# Altium schematic symbol library WA-SMSI_M2.5 Thread Internal.SchLib: 26 symbols
Pins are listed as number, name and electrical type; pins without a type are passive.

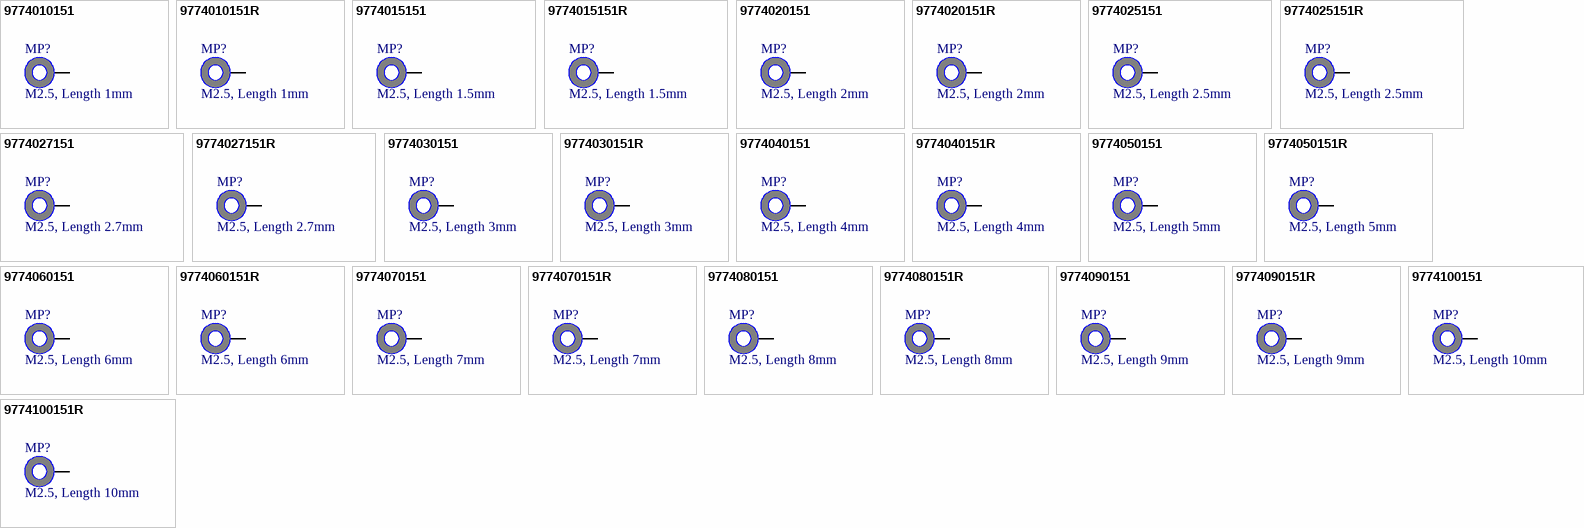
[diagram p0: symbols 9774010151 to 9774100151R]

## 9774010151
designator MP?, comment M2.5, Length 1mm
WA-SMSI SMT Steel Spacer, M2.5 Thread Internal, Length 1mm; PartNumber: 9774010151; InnerDiameter: 3.5mm; OuterDiameter: 5.1mm; PublishedDate: Dec. 2016; Publisher: Wurth Elektronik; ComponentLink1Description: Manufacturer; ComponentLink1URL: http://www.we-online.de; ComponentLink2Description: Datasheet; ComponentLink2URL: http://katalog.we-online.de/em/datasheet/9774010151.pdf; Length: 1mm; Thread: M2.5; Packaging: Bulk
footprint 9774010151
pins: 1

## 9774010151R
designator MP?, comment M2.5, Length 1mm
WA-SMSI SMT Steel Spacer, M2.5 Thread Internal, Length 1mm; PartNumber: 9774010151R; InnerDiameter: 3.5mm; OuterDiameter: 5.1mm; PublishedDate: Dec. 2016; Publisher: Wurth Elektronik; ComponentLink1Description: Manufacturer; ComponentLink1URL: http://www.we-online.de; ComponentLink2Description: Datasheet; ComponentLink2URL: http://katalog.we-online.de/em/datasheet/9774010151R.pdf; Length: 1mm; Thread: M2.5; Packaging: Tape and Reel
footprint 9774010151
pins: 1

## 9774015151
designator MP?, comment M2.5, Length 1.5mm
WA-SMSI SMT Steel Spacer, M2.5 Thread Internal, Length 1.5mm; PartNumber: 9774015151; InnerDiameter: 3.5mm; OuterDiameter: 5.1mm; PublishedDate: Dec. 2016; Publisher: Wurth Elektronik; ComponentLink1Description: Manufacturer; ComponentLink1URL: http://www.we-online.de; ComponentLink2Description: Datasheet; ComponentLink2URL: http://katalog.we-online.de/em/datasheet/9774015151.pdf; Length: 1.5mm; Thread: M2.5; Packaging: Bulk
footprint 9774015151
pins: 1

## 9774015151R
designator MP?, comment M2.5, Length 1.5mm
WA-SMSI SMT Steel Spacer, M2.5 Thread Internal, Length 1.5mm; PartNumber: 9774015151R; InnerDiameter: 3.5mm; OuterDiameter: 5.1mm; PublishedDate: Dec. 2016; Publisher: Wurth Elektronik; ComponentLink1Description: Manufacturer; ComponentLink1URL: http://www.we-online.de; ComponentLink2Description: Datasheet; ComponentLink2URL: http://katalog.we-online.de/em/datasheet/9774015151R.pdf; Length: 1.5mm; Thread: M2.5; Packaging: Tape and Reel
footprint 9774015151
pins: 1

## 9774020151
designator MP?, comment M2.5, Length 2mm
WA-SMSI SMT Steel Spacer, M2.5 Thread Internal, Length 2mm; PartNumber: 9774020151; InnerDiameter: 3.5mm; OuterDiameter: 5.1mm; PublishedDate: Dec. 2016; Publisher: Wurth Elektronik; ComponentLink1Description: Manufacturer; ComponentLink1URL: http://www.we-online.de; ComponentLink2Description: Datasheet; ComponentLink2URL: http://katalog.we-online.de/em/datasheet/9774020151.pdf; Length: 2mm; Thread: M2.5; Packaging: Bulk
footprint 9774020151
pins: 1

## 9774020151R
designator MP?, comment M2.5, Length 2mm
WA-SMSI SMT Steel Spacer, M2.5 Thread Internal, Length 2mm; PartNumber: 9774020151R; InnerDiameter: 3.5mm; OuterDiameter: 5.1mm; PublishedDate: Dec. 2016; Publisher: Wurth Elektronik; ComponentLink1Description: Manufacturer; ComponentLink1URL: http://www.we-online.de; ComponentLink2Description: Datasheet; ComponentLink2URL: http://katalog.we-online.de/em/datasheet/9774020151R.pdf; Length: 2mm; Thread: M2.5; Packaging: Tape and Reel
footprint 9774020151
pins: 1

## 9774025151
designator MP?, comment M2.5, Length 2.5mm
WA-SMSI SMT Steel Spacer, M2.5 Thread Internal, Length 2.5mm; PartNumber: 9774025151; InnerDiameter: 3.5mm; OuterDiameter: 5.1mm; PublishedDate: Dec. 2016; Publisher: Wurth Elektronik; ComponentLink1Description: Manufacturer; ComponentLink1URL: http://www.we-online.de; ComponentLink2Description: Datasheet; ComponentLink2URL: http://katalog.we-online.de/em/datasheet/9774025151.pdf; Length: 2.5mm; Thread: M2.5; Packaging: Bulk
footprint 9774025151
pins: 1

## 9774025151R
designator MP?, comment M2.5, Length 2.5mm
WA-SMSI SMT Steel Spacer, M2.5 Thread Internal, Length 2.5mm; PartNumber: 9774025151R; InnerDiameter: 3.5mm; OuterDiameter: 5.1mm; PublishedDate: Dec. 2016; Publisher: Wurth Elektronik; ComponentLink1Description: Manufacturer; ComponentLink1URL: http://www.we-online.de; ComponentLink2Description: Datasheet; ComponentLink2URL: http://katalog.we-online.de/em/datasheet/9774025151R.pdf; Length: 2.5mm; Thread: M2.5; Packaging: Tape and Reel
footprint 9774025151
pins: 1

## 9774027151
designator MP?, comment M2.5, Length 2.7mm
WA-SMSI SMT Steel Spacer, M2.5 Thread Internal, Length 2.7mm; PartNumber: 9774027151; InnerDiameter: 3.5mm; OuterDiameter: 5.1mm; PublishedDate: Dec. 2016; Publisher: Wurth Elektronik; ComponentLink1Description: Manufacturer; ComponentLink1URL: http://www.we-online.de; ComponentLink2Description: Datasheet; ComponentLink2URL: http://katalog.we-online.de/em/datasheet/9774027151.pdf; Length: 2.7mm; Thread: M2.5; Packaging: Bulk
footprint 9774027151
pins: 1

## 9774027151R
designator MP?, comment M2.5, Length 2.7mm
WA-SMSI SMT Steel Spacer, M2.5 Thread Internal, Length 2.7mm; PartNumber: 9774027151R; InnerDiameter: 3.5mm; OuterDiameter: 5.1mm; PublishedDate: Dec. 2016; Publisher: Wurth Elektronik; ComponentLink1Description: Manufacturer; ComponentLink1URL: http://www.we-online.de; ComponentLink2Description: Datasheet; ComponentLink2URL: http://katalog.we-online.de/em/datasheet/9774027151R.pdf; Length: 2.7mm; Thread: M2.5; Packaging: Tape and Reel
footprint 9774027151
pins: 1

## 9774030151
designator MP?, comment M2.5, Length 3mm
WA-SMSI SMT Steel Spacer, M2.5 Thread Internal, Length 3mm; PartNumber: 9774030151; InnerDiameter: 3.5mm; OuterDiameter: 5.1mm; PublishedDate: Dec. 2016; Publisher: Wurth Elektronik; ComponentLink1Description: Manufacturer; ComponentLink1URL: http://www.we-online.de; ComponentLink2Description: Datasheet; ComponentLink2URL: http://katalog.we-online.de/em/datasheet/9774030151.pdf; Length: 3mm; Thread: M2.5; Packaging: Bulk
footprint 9774030151
pins: 1

## 9774030151R
designator MP?, comment M2.5, Length 3mm
WA-SMSI SMT Steel Spacer, M2.5 Thread Internal, Length 3mm; PartNumber: 9774030151R; InnerDiameter: 3.5mm; OuterDiameter: 5.1mm; PublishedDate: Dec. 2016; Publisher: Wurth Elektronik; ComponentLink1Description: Manufacturer; ComponentLink1URL: http://www.we-online.de; ComponentLink2Description: Datasheet; ComponentLink2URL: http://katalog.we-online.de/em/datasheet/9774030151R.pdf; Length: 3mm; Thread: M2.5; Packaging: Tape and Reel
footprint 9774030151
pins: 1

## 9774040151
designator MP?, comment M2.5, Length 4mm
WA-SMSI SMT Steel Spacer, M2.5 Thread Internal, Length 4mm; PartNumber: 9774040151; InnerDiameter: 3.5mm; OuterDiameter: 5.1mm; PublishedDate: Dec. 2016; Publisher: Wurth Elektronik; ComponentLink1Description: Manufacturer; ComponentLink1URL: http://www.we-online.de; ComponentLink2Description: Datasheet; ComponentLink2URL: http://katalog.we-online.de/em/datasheet/9774040151.pdf; Length: 4mm; Thread: M2.5; Packaging: Bulk
footprint 9774040151
pins: 1

## 9774040151R
designator MP?, comment M2.5, Length 4mm
WA-SMSI SMT Steel Spacer, M2.5 Thread Internal, Length 4mm; PartNumber: 9774040151R; InnerDiameter: 3.5mm; OuterDiameter: 5.1mm; PublishedDate: Dec. 2016; Publisher: Wurth Elektronik; ComponentLink1Description: Manufacturer; ComponentLink1URL: http://www.we-online.de; ComponentLink2Description: Datasheet; ComponentLink2URL: http://katalog.we-online.de/em/datasheet/9774040151R.pdf; Length: 4mm; Thread: M2.5; Packaging: Tape and Reel
footprint 9774040151
pins: 1

## 9774050151
designator MP?, comment M2.5, Length 5mm
WA-SMSI SMT Steel Spacer, M2.5 Thread Internal, Length 5mm; PartNumber: 9774050151; InnerDiameter: 3.5mm; OuterDiameter: 5.1mm; PublishedDate: Dec. 2016; Publisher: Wurth Elektronik; ComponentLink1Description: Manufacturer; ComponentLink1URL: http://www.we-online.de; ComponentLink2Description: Datasheet; ComponentLink2URL: http://katalog.we-online.de/em/datasheet/9774050151.pdf; Length: 5mm; Thread: M2.5; Packaging: Bulk
footprint 9774050151
pins: 1

## 9774050151R
designator MP?, comment M2.5, Length 5mm
WA-SMSI SMT Steel Spacer, M2.5 Thread Internal, Length 5mm; PartNumber: 9774050151R; InnerDiameter: 3.5mm; OuterDiameter: 5.1mm; PublishedDate: Dec. 2016; Publisher: Wurth Elektronik; ComponentLink1Description: Manufacturer; ComponentLink1URL: http://www.we-online.de; ComponentLink2Description: Datasheet; ComponentLink2URL: http://katalog.we-online.de/em/datasheet/9774050151R.pdf; Length: 5mm; Thread: M2.5; Packaging: Tape and Reel
footprint 9774050151
pins: 1

## 9774060151
designator MP?, comment M2.5, Length 6mm
WA-SMSI SMT Steel Spacer, M2.5 Thread Internal, Length 6mm; PartNumber: 9774060151; InnerDiameter: 3.5mm; OuterDiameter: 5.1mm; PublishedDate: Dec. 2016; Publisher: Wurth Elektronik; ComponentLink1Description: Manufacturer; ComponentLink1URL: http://www.we-online.de; ComponentLink2Description: Datasheet; ComponentLink2URL: http://katalog.we-online.de/em/datasheet/9774060151.pdf; Length: 6mm; Thread: M2.5; Packaging: Bulk
footprint 9774060151
pins: 1

## 9774060151R
designator MP?, comment M2.5, Length 6mm
WA-SMSI SMT Steel Spacer, M2.5 Thread Internal, Length 6mm; PartNumber: 9774060151R; InnerDiameter: 3.5mm; OuterDiameter: 5.1mm; PublishedDate: Dec. 2016; Publisher: Wurth Elektronik; ComponentLink1Description: Manufacturer; ComponentLink1URL: http://www.we-online.de; ComponentLink2Description: Datasheet; ComponentLink2URL: http://katalog.we-online.de/em/datasheet/9774060151R.pdf; Length: 6mm; Thread: M2.5; Packaging: Tape and Reel
footprint 9774060151
pins: 1

## 9774070151
designator MP?, comment M2.5, Length 7mm
WA-SMSI SMT Steel Spacer, M2.5 Thread Internal, Length 7mm; PartNumber: 9774070151; InnerDiameter: 3.5mm; OuterDiameter: 5.1mm; PublishedDate: Dec. 2016; Publisher: Wurth Elektronik; ComponentLink1Description: Manufacturer; ComponentLink1URL: http://www.we-online.de; ComponentLink2Description: Datasheet; ComponentLink2URL: http://katalog.we-online.de/em/datasheet/9774070151.pdf; Length: 7mm; Thread: M2.5; Packaging: Bulk
footprint 9774070151
pins: 1

## 9774070151R
designator MP?, comment M2.5, Length 7mm
WA-SMSI SMT Steel Spacer, M2.5 Thread Internal, Length 7mm; PartNumber: 9774070151R; InnerDiameter: 3.5mm; OuterDiameter: 5.1mm; PublishedDate: Dec. 2016; Publisher: Wurth Elektronik; ComponentLink1Description: Manufacturer; ComponentLink1URL: http://www.we-online.de; ComponentLink2Description: Datasheet; ComponentLink2URL: http://katalog.we-online.de/em/datasheet/9774070151R.pdf; Length: 7mm; Thread: M2.5; Packaging: Tape and Reel
footprint 9774070151
pins: 1

## 9774080151
designator MP?, comment M2.5, Length 8mm
WA-SMSI SMT Steel Spacer, M2.5 Thread Internal, Length 8mm; PartNumber: 9774080151; InnerDiameter: 3.5mm; OuterDiameter: 5.1mm; PublishedDate: Dec. 2016; Publisher: Wurth Elektronik; ComponentLink1Description: Manufacturer; ComponentLink1URL: http://www.we-online.de; ComponentLink2Description: Datasheet; ComponentLink2URL: http://katalog.we-online.de/em/datasheet/9774080151.pdf; Length: 8mm; Thread: M2.5; Packaging: Bulk
footprint 9774080151
pins: 1

## 9774080151R
designator MP?, comment M2.5, Length 8mm
WA-SMSI SMT Steel Spacer, M2.5 Thread Internal, Length 8mm; PartNumber: 9774080151R; InnerDiameter: 3.5mm; OuterDiameter: 5.1mm; PublishedDate: Dec. 2016; Publisher: Wurth Elektronik; ComponentLink1Description: Manufacturer; ComponentLink1URL: http://www.we-online.de; ComponentLink2Description: Datasheet; ComponentLink2URL: http://katalog.we-online.de/em/datasheet/9774080151R.pdf; Length: 8mm; Thread: M2.5; Packaging: Tape and Reel
footprint 9774080151
pins: 1

## 9774090151
designator MP?, comment M2.5, Length 9mm
WA-SMSI SMT Steel Spacer, M2.5 Thread Internal, Length 9mm; PartNumber: 9774090151; InnerDiameter: 3.5mm; OuterDiameter: 5.1mm; PublishedDate: Dec. 2016; Publisher: Wurth Elektronik; ComponentLink1Description: Manufacturer; ComponentLink1URL: http://www.we-online.de; ComponentLink2Description: Datasheet; ComponentLink2URL: http://katalog.we-online.de/em/datasheet/9774090151.pdf; Length: 9mm; Thread: M2.5; Packaging: Bulk
footprint 9774090151
pins: 1

## 9774090151R
designator MP?, comment M2.5, Length 9mm
WA-SMSI SMT Steel Spacer, M2.5 Thread Internal, Length 9mm; PartNumber: 9774090151R; InnerDiameter: 3.5mm; OuterDiameter: 5.1mm; PublishedDate: Dec. 2016; Publisher: Wurth Elektronik; ComponentLink1Description: Manufacturer; ComponentLink1URL: http://www.we-online.de; ComponentLink2Description: Datasheet; ComponentLink2URL: http://katalog.we-online.de/em/datasheet/9774090151R.pdf; Length: 9mm; Thread: M2.5; Packaging: Tape and Reel
footprint 9774090151
pins: 1

## 9774100151
designator MP?, comment M2.5, Length 10mm
WA-SMSI SMT Steel Spacer, M2.5 Thread Internal, Length 10mm; PartNumber: 9774100151; InnerDiameter: 3.5mm; OuterDiameter: 5.1mm; PublishedDate: Dec. 2016; Publisher: Wurth Elektronik; ComponentLink1Description: Manufacturer; ComponentLink1URL: http://www.we-online.de; ComponentLink2Description: Datasheet; ComponentLink2URL: http://katalog.we-online.de/em/datasheet/9774100151.pdf; Length: 10mm; Thread: M2.5; Packaging: Bulk
footprint 9774100151
pins: 1

## 9774100151R
designator MP?, comment M2.5, Length 10mm
WA-SMSI SMT Steel Spacer, M2.5 Thread Internal, Length 10mm; PartNumber: 9774100151R; InnerDiameter: 3.5mm; OuterDiameter: 5.1mm; PublishedDate: Dec. 2016; Publisher: Wurth Elektronik; ComponentLink1Description: Manufacturer; ComponentLink1URL: http://www.we-online.de; ComponentLink2Description: Datasheet; ComponentLink2URL: http://katalog.we-online.de/em/datasheet/9774100151R.pdf; Length: 10mm; Thread: M2.5; Packaging: Tape and Reel
footprint 9774100151
pins: 1